# EAGLE library part EMW3162 (library cTechnologies_modules)
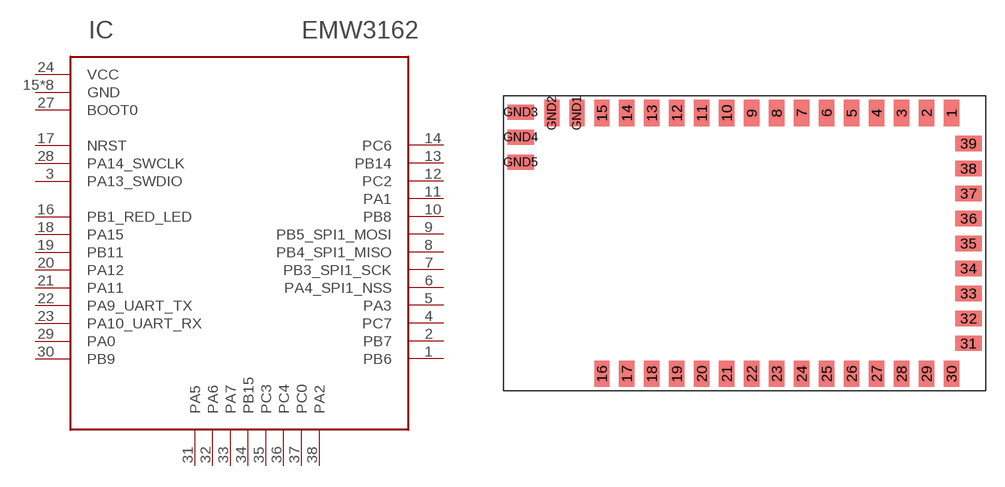
[diagram p0: symbol with the pads of EMW3162; footprint EMW3162]

Designator prefix IC

## EMW3162  [EMW3162]
1  PB6
2  PB7
3  PA13_SWDIO
4  PC7
5  PA3
6  PA4_SPI1_NSS
7  PB3_SPI1_SCK
8  PB4_SPI1_MISO
9  PB5_SPI1_MOSI
10  PB8
11  PA1
12  PC2
13  PB14
14  PC6
15  GND
16  PB1_RED_LED
17  NRST
18  PA15
19  PB11
20  PA12
21  PA11
22  PA9_UART_TX
23  PA10_UART_RX
24  VCC
25  GND
27  BOOT0
28  PA14_SWCLK
29  PA0
30  PB9
31  PA5
32  PA6
33  PA7
34  PB15
35  PC3
36  PC4
37  PC0
38  PA2
39  GND
GND1  GND
GND2  GND
GND3  GND
GND4  GND
GND5  GND

## Footprint EMW3162 (pad centres in mm)
smd 1.22 x 2.11: 1 35.875,22.255; 2 33.875,22.255; 3 31.875,22.255; 4 29.875,22.255; 5 27.875,22.255; 6 25.875,22.255; 7 23.875,22.255; 8 21.875,22.255; 9 19.875,22.255; 10 17.875,22.255; 11 15.875,22.255; 12 13.875,22.255; 13 11.875,22.255; 14 9.875,22.255; 15 7.875,22.255; 16 7.875,1.375; 17 9.875,1.375; 18 11.875,1.375; 19 13.875,1.375; 20 15.875,1.375; 21 17.875,1.375; 22 19.875,1.375; 23 21.875,1.375; 24 23.875,1.375; 25 25.875,1.375; 26 27.875,1.375; 27 29.875,1.375; 28 31.875,1.375; 29 33.875,1.375; 30 35.875,1.375; GND1 5.875,22.255; GND2 3.875,22.255
smd 2.11 x 1.22: 31 37.245,3.81; 32 37.245,5.81; 33 37.245,7.81; 34 37.245,9.81; 35 37.245,11.81; 36 37.245,13.81; 37 37.245,15.81; 38 37.245,17.81; 39 37.245,19.81; GND3 1.375,22.31; GND4 1.375,20.31; GND5 1.375,18.31